# EAGLE library part RFM9XW (library ICs)
RFM95/96/97/98(W) - Low Power Long Range Transceiver Module V1.0
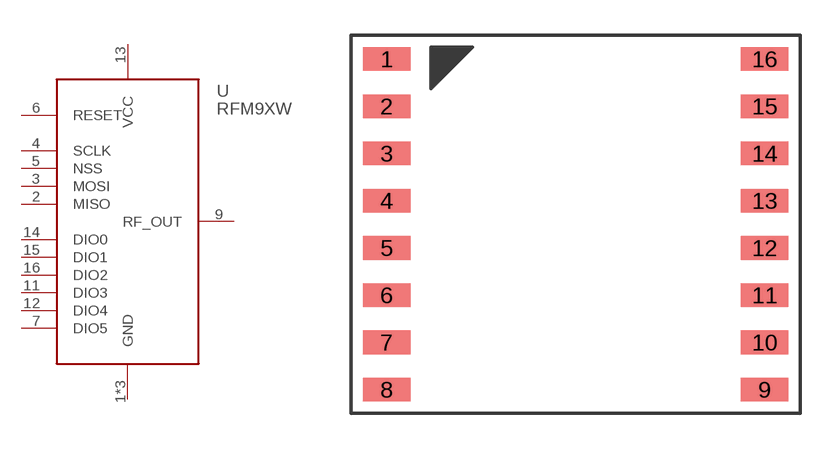
[diagram p176: symbol with the pads of RFM9XW; footprint RFM9XW]

Designator prefix U

## RFM9XW-RFM95 (DIGIKEY: 1597-1488-ND; HEIGHT: 1.8; PRICE_PER: 5.81; VALUE: RFM95W 868MHz)  [RFM9XW]
1  GND
2  MISO
3  MOSI
4  SCLK
5  NSS
6  RESET
7  DIO5
8  GND
9  RF_OUT
10  GND
11  DIO3
12  DIO4
13  VCC
14  DIO0
15  DIO1
16  DIO2

## RFM9XWRFM98 (HEIGHT: 1.8; VALUE: RFM98W - 433MHz)  [RFM9XW]
Pads as for RFM9XW

## Footprint RFM9XW (pad centres in mm)
smd 2 x 1: 1 -8,7; 2 -8,5; 3 -8,3; 4 -8,1; 5 -8,-1; 6 -8,-3; 7 -8,-5; 8 -8,-7; 9 8,-7; 10 8,-5; 11 8,-3; 12 8,-1; 13 8,1; 14 8,3; 15 8,5; 16 8,7